# EAGLE library part TINY10 (library attiny10)
MICROCONTROLLER 1 Kbytes ROM
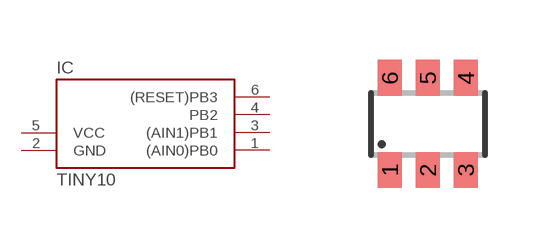
[diagram p0: symbol with the pads of SOT23-6; footprint SOT23-6]

Designator prefix IC

## TINY10  [SOT23-6]
1  (AIN0)PB0
2  GND  pwr
3  (AIN1)PB1
4  PB2
5  VCC  pwr
6  (RESET)PB3

## Footprint SOT23-6 (pad centres in mm)
Small Outline Transistor 6 lead
smd 0.6 x 0.9: 1 -0.95,-1.15; 2 0,-1.15; 3 0.95,-1.15; 4 0.95,1.15; 5 0,1.15; 6 -0.95,1.15